# Altium integrated library Adafruit.IntLib: 1 symbol
Pins are listed as number, name and electrical type; pins without a type are passive.

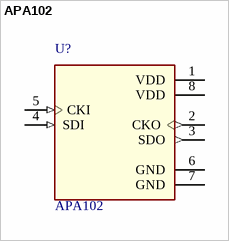
[diagram p0: symbol APA102]

## APA102
designator U?
APA102-2020-256-8 is a type ic for the three-color RGB Diming control strip and string.; MPN: APA-102-2020-256-8; MF: Adafruit Industries; SnapEDA_Link: https://www.snapeda.com/parts/APA-102-2020-256-8/APA%20Electronic%20/view-part/?ref=snap; Package: SOIC-20 Adafruit Industries; Price: None; Availability: Unavailable; Value: *
footprint APA102
pins: 1 VDD (power), 2 CKO (out), 3 SDO (out), 4 SDI (in), 5 CKI (in), 6 GND (power), 7 GND (power), 8 VDD (power)